# EAGLE library part 082-1X1T-36-F (library OMAT_IC)
Ethernet Connector MagJack (R) Source: www.stewartconnector.com .. si-50170.pdf
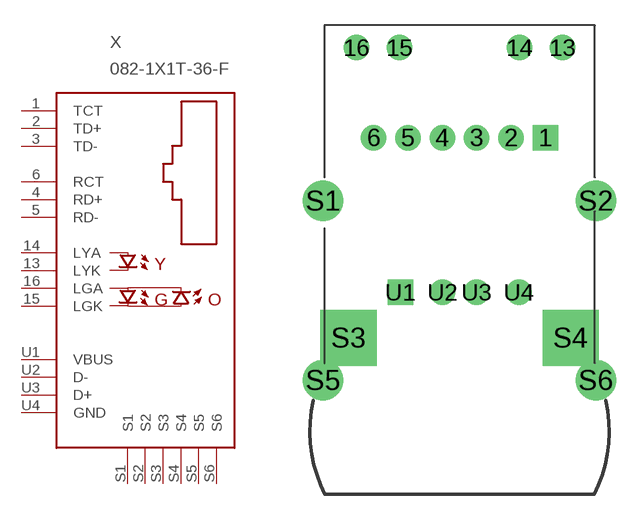
[diagram p4: symbol with the pads of 0821-1X1T-36-F; footprint 0821-1X1T-36-F]

Designator prefix X

## 082-1X1T-36-F (OC_FARNELL: unknown; OC_NEWARK: unknown)  [0821-1X1T-36-F]
1  TCT
2  TD+
3  TD-
4  RD+
5  RD-
6  RCT
13  LYK
14  LYA
15  LGK
16  LGA
S1  S1
S2  S2
S3  S3
S4  S4
S5  S5
S6  S6
U1  VBUS
U2  D-
U3  D+
U4  GND

## Footprint 0821-1X1T-36-F (pad centres in mm)
Ethernet Connector (MagJack) Source: si-50170.pdf
drill 1 square: 1 5.075,14.35; U1 -3.505,5.21
drill 1: 2 3.045,14.35; 3 1.015,14.35; 4 -1.015,14.35; 5 -3.045,14.35; 6 -5.075,14.35; 13 6.09,19.69; 14 3.55,19.69; 15 -3.55,19.69; 16 -6.09,19.69; U2 -1.005,5.21; U3 1.005,5.21; U4 3.505,5.21
drill 1.6: S1 -8.065,10.62; S2 8.065,10.62; S5 -8.065,0; S6 8.065,0
drill 2.3 square: S3 -6.565,2.51; S4 6.565,2.51